# EAGLE library part MARDUINO_PWR6 (library Arduino-shield-scaffolds)
Arduino Modular Shield Scaffold Duemilanove 6-pin power connector (includes 3.3V, RESET)
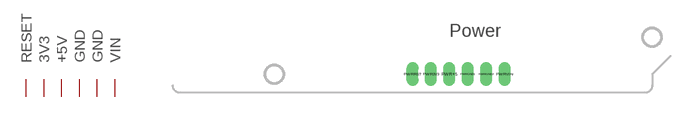
[diagram p4: symbol with the pads of MARDUINO_2009PWR; footprint MARDUINO_2009PWR]

Designator prefix -; gates G$1=ARDUINO_PWRBASE G$2=ARDUINO-EXTPWR

## MARDUINO_PWR6  [MARDUINO_2009PWR]
PWR3V3  G$2:3V3  pwr
PWR+5  G$1:+5V  pwr
PWRGND1  G$1:GND  pwr
PWRGND2  G$1:GND  pwr
PWRRST  G$2:RESET  in
PWRVIN  G$1:VIN  pwr

## Footprint MARDUINO_2009PWR (pad centres in mm)
Arduino Modular Shield Scaffold Duemilanove 6-pin power pins (includes 3.3V and RESET)
drill 1.1 long: PWR3V3 35.56,2.54; PWR+5 38.1,2.54; PWRGND1 40.64,2.54; PWRGND2 43.18,2.54; PWRRST 33.02,2.54; PWRVIN 45.72,2.54